# EAGLE library part ZX62RD-AB-5P8 (library 25cmsquare)
ZX62RD-AB-5P8 http://www.hirose.co.jp/cataloge_hp/ed_ZX_20140804.pdf
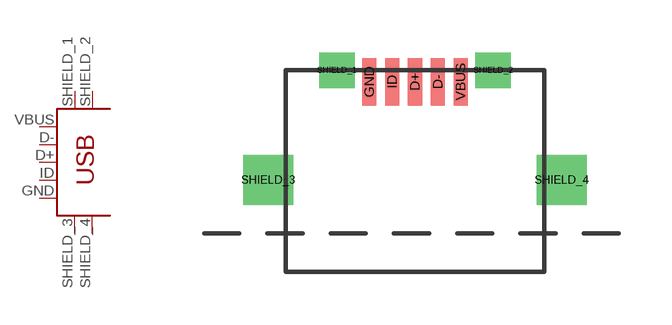
[diagram p0: symbol with the pads of ZX62RD-AB-5P8; footprint ZX62RD-AB-5P8]

Designator prefix -

## ZX62RD-AB-5P8  [ZX62RD-AB-5P8]
D+  D+
D-  D-
GND  GND
ID  ID
SHIELD_1  MTN1
SHIELD_2  MTN2
SHIELD_3  MTN3
SHIELD_4  MTN4
VBUS  VBUS

## Footprint ZX62RD-AB-5P8 (pad centres in mm)
ZX62RD-AB-5P8 http://www.hirose.co.jp/cataloge_hp/ed_ZX_20140804.pdf
smd 0.4 x 1.35: D+ 0,5.425; D- 0.65,5.425; GND -1.3,5.425; ID -0.65,5.425; VBUS 1.3,5.425
drill 0.5 pad 0.813 square: SHIELD_1 -2.225,5.75; SHIELD_2 2.225,5.75
drill 0.9 pad 1.422 square: SHIELD_3 -4.175,2.625; SHIELD_4 4.175,2.625